# EAGLE library part I-05738_OSL641501-BRA (library Akizuki)
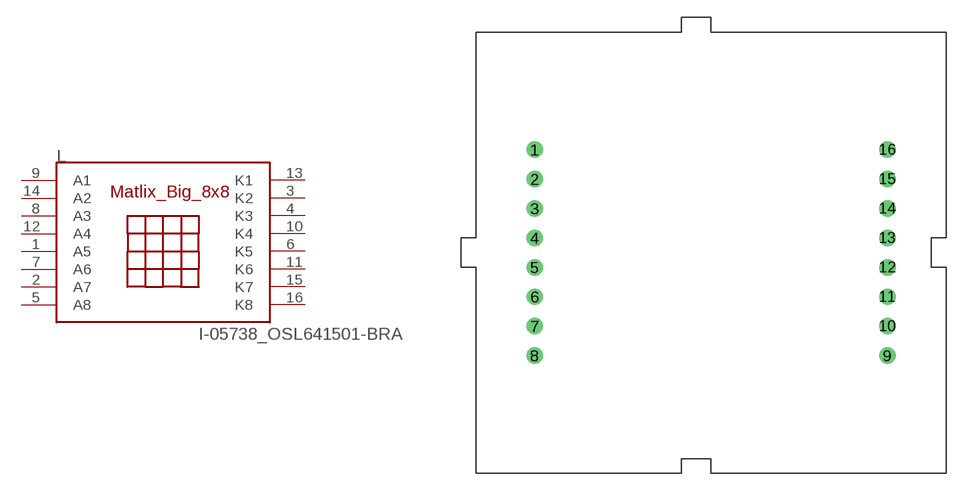
[diagram p4: symbol with the pads of MATLIX_BIG_8X8; footprint MATLIX_BIG_8X8]

Designator prefix L

## I-05738_OSL641501-BRA  [MATLIX_BIG_8X8]
1  A5
2  A7
3  K2
4  K3
5  A8
6  K5
7  A6
8  A3
9  A1
10  K4
11  K6
12  A4
13  K1
14  A2
15  K7
16  K8

## Footprint MATLIX_BIG_8X8 (pad centres in mm)
drill 0.8 pad 1.422: 1 0,17.78; 2 0,15.24; 3 0,12.7; 4 0,10.16; 5 0,7.62; 6 0,5.08; 7 0,2.54; 8 0,0; 9 30.48,0; 10 30.48,2.54; 11 30.48,5.08; 12 30.48,7.62; 13 30.48,10.16; 14 30.48,12.7; 15 30.48,15.24; 16 30.48,17.78